# Altium footprint library NET_TIE.PcbLib: 1 footprints
Each footprint in its own frame and in the unit in brackets; x right, y up, seen from the top. Pads: shape width x height; smd on the part's side, far side on the other; paste and mask are expansions set on the pad; w line width, h text height; cw(c..) or ccw(c..) is an arc to the next point about the centre after c.
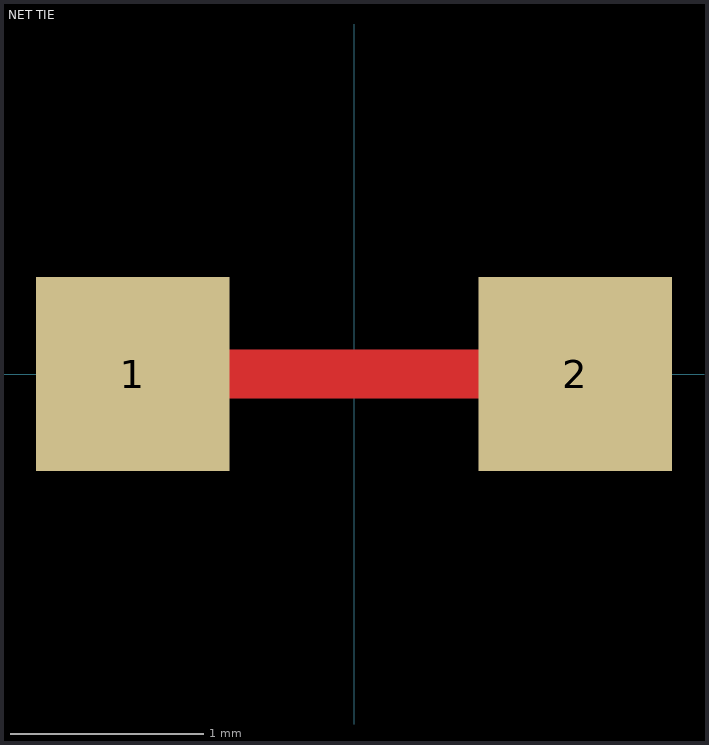
[diagram p0: the footprint, top view; thin cyan lines are the x and y axes]

## NET TIE [mm]
pads (2):
  rect 1x1 smd mask-10: 1(-1.143,0) 2(1.143,0)
Top Layer:
  rectangle: -0.762,-0.127 0.762,0.127